# Altium footprint library OPAMP_DEV_SOT5_6-23.PcbLib: 52 footprints (part 3 of 4)
Each footprint in its own frame and in the unit in brackets; x right, y up, seen from the top. Pads: shape width x height; smd on the part's side, far side on the other; paste and mask are expansions set on the pad; w line width, h text height; cw(c..) or ccw(c..) is an arc to the next point about the centre after c.
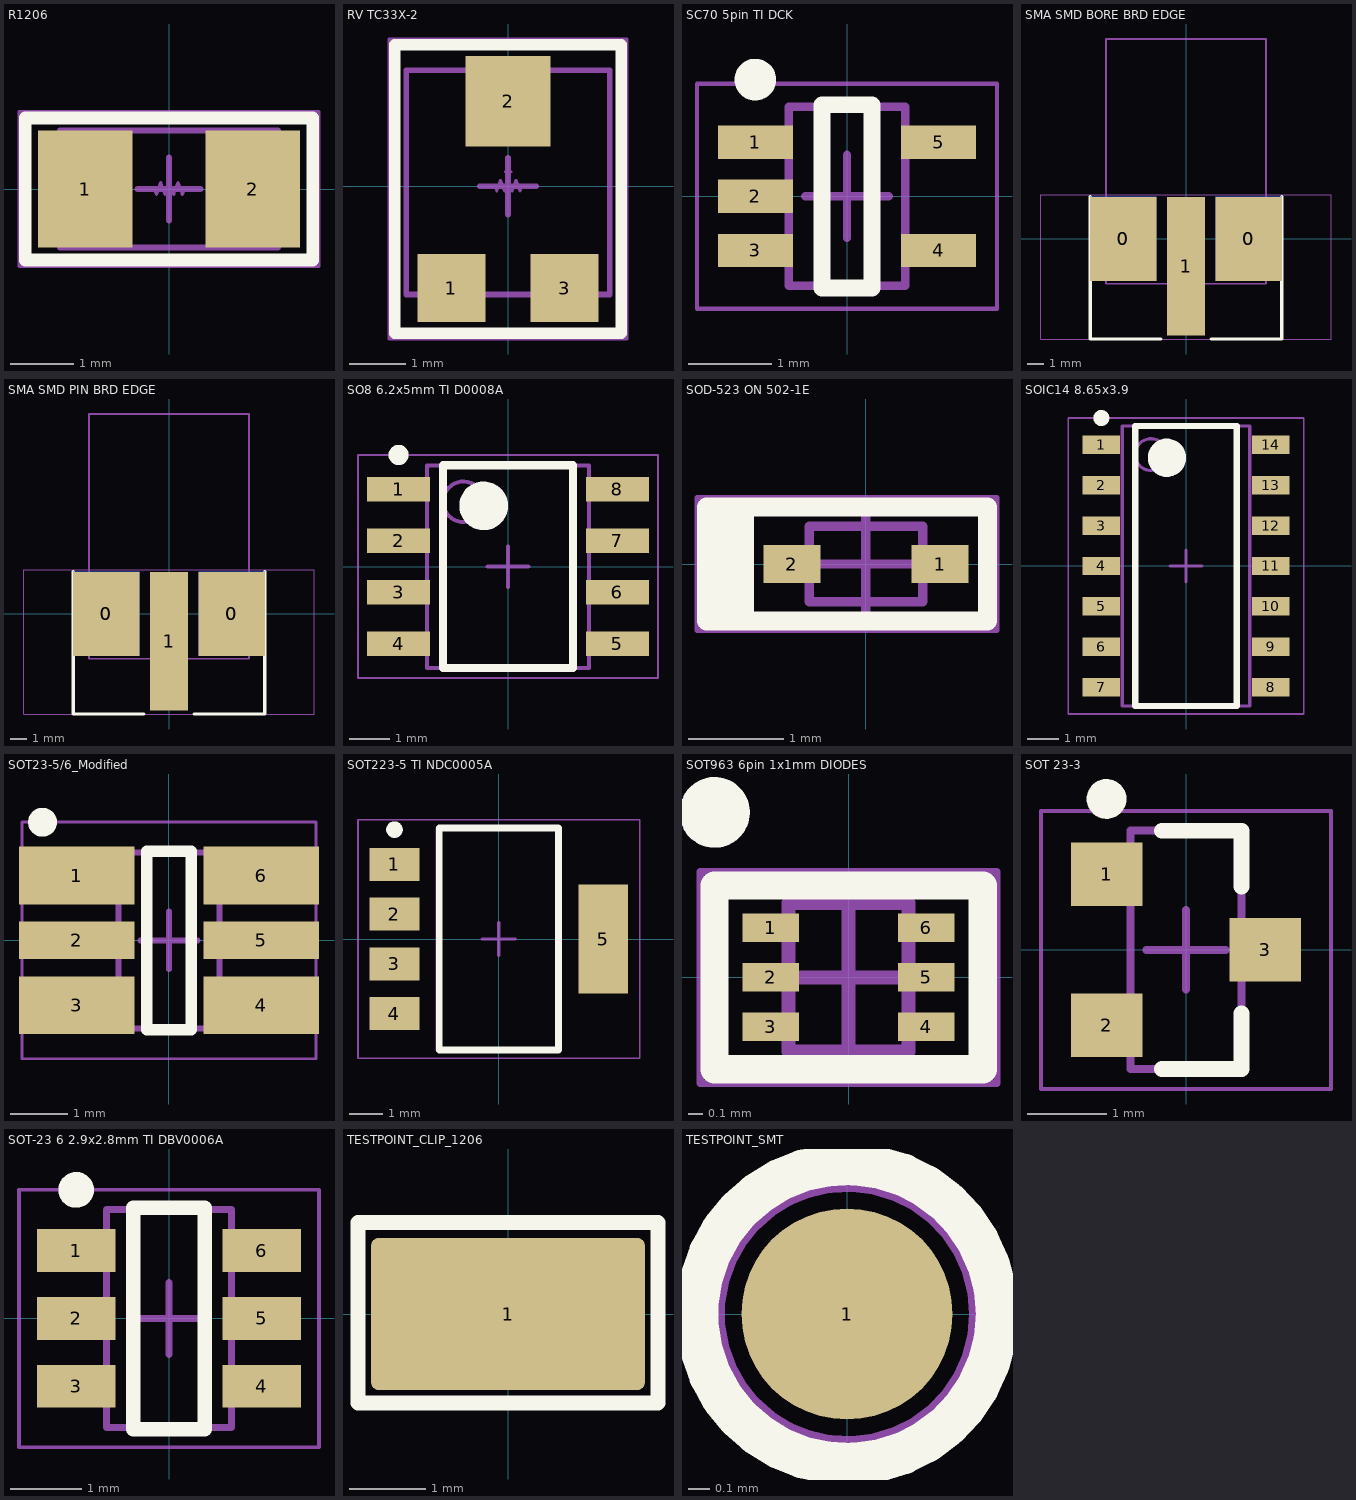
[diagram p2: the footprints below, top view; thin cyan lines are the x and y axes]

## R1206 [mm] "Chip Resistor, 2-Leads, Body 3.20x1.60mm, IPC Medium Density"
height 0.65
pads (2):
  rect 1.5x1.85 smd: 1(-1.325,0) 2(1.325,0)
Top Overlay:
  lines w0.2: -2.275,-1.125 2.275,-1.125 2.275,1.125 -2.275,1.125 -2.275,-1.125
Mechanical 13:
  lines w0.05: -0.335,0.009 -0.234,0.009 -0.2,-0.085 -0.131,0.103 -0.063,-0.085 0.006,0.103 0.074,-0.085 0.142,0.103 0.211,-0.085 0.245,0.009 0.347,0.009
  lines w0.1: -1.725,-0.925 1.725,-0.925 1.725,0.925 -1.725,0.925 -1.725,-0.925
Mechanical 15:
  lines w0.05: -2.375,-1.225 2.375,-1.225 2.375,1.225 -2.375,1.225 -2.375,-1.225
  lines w0.1: -0.5,0 0.5,0 ; 0,-0.5 0,0.5
3D body "RESC3216X06N.step": height 0.65, standoff 0, extent -1.725,-0.925 1.725,0.925

## R2512 [mm]

## RV TC33X-2 [mm]
pads (3):
  rect 1.2x1.2 smd: 1(-1,-1.8) 3(1,-1.8)
  rect 1.5x1.6 smd: 2(0,1.5)
Top Overlay:
  lines w0.2: -2,-2.6 -2,2.5 2,2.5 2,-2.6 -2,-2.6
Mechanical 1:
  lines w0.05: -0.048,0.255 0.001,0.216 0.051,0.255
Mechanical 13:
  lines w0.05: -0.335,0.009 -0.234,0.009 -0.2,-0.085 -0.131,0.103 -0.063,-0.085 0.006,0.103 0.074,-0.085 0.142,0.103 0.211,-0.085 0.245,0.009 0.347,0.009 ; 0,0.5 0.001,0.216
  lines w0.1: -1.8,-1.913 -1.8,2.05 1.8,2.05 1.8,-1.913 -1.8,-1.913
Mechanical 15:
  lines w0.05: -2.1,-2.7 -2.1,2.6 2.1,2.6 2.1,-2.7 -2.1,-2.7
  lines w0.1: -0.5,0 0.5,0 ; 0,-0.5 0,0.5
3D body "TC-33X-2.stp": height 1.13, standoff -0.02, extent -1.8,-1.913 1.8,2.05

## SC70 5pin TI DCK [mm]
height 1.1
pads (5):
  rect 0.9x0.4 smd: 1(-1.1,0.65) 2(-1.1,0) 3(-1.1,-0.65) 4(1.1,-0.65) 5(1.1,0.65)
Top Overlay:
  circle w0.25: c-1.1,1.4 r0.125
  lines w0.2: -0.3,-1.1 0.3,-1.1 0.3,1.1 -0.3,1.1 -0.3,-1.1
Mechanical 13:
  lines w0.1: -0.7,-1.075 -0.7,1.075 0.7,1.075 0.7,-1.075 -0.7,-1.075
Mechanical 15:
  lines w0.05: -1.8,-1.35 -1.8,1.35 1.8,1.35 1.8,-1.35 -1.8,-1.35
  lines w0.1: -0.5,0 0.5,0 ; 0,-0.5 0,0.5
3D body "SC70 5pin TI DCK.step": height 1.1, standoff 0, extent -1.2,-1.075 1.2,1.075

## SMA SMD BORE BRD EDGE [mm]
height 1.45
pads (5):
  rect 4x5.08 smd paste-25.375: 0(-3.786,0) 0(3.786,0)
  rect 4x5.08 smd far side paste-25.375: 0(-3.786,0) 0(3.786,0)
  rect 2.286x8.382 smd paste-25.375: 1(0,-1.651)
Top Overlay:
  lines w0.2: -5.788,2.54 -5.788,-6.042 -1.508,-6.042 ; 1.508,-6.042 5.788,-6.042 5.788,2.54
Top Assembly:
  lines w0.1: -4.826,-2.705 -4.826,12.065 4.826,12.065 4.826,-2.705 -4.826,-2.705
Top Courtyard:
  lines w0.05: -8.763,-6.042 -8.763,2.667 8.763,2.667 8.763,-6.042 -8.763,-6.042
  lines w0.1: -0.5,0 0.5,0 ; 0,-0.5 0,0.5
3D body "142-0701-801.stp": height 4.36, standoff -3.57, extent -4.763,-2.21 4.762,12.065

## SMA SMD PIN BRD EDGE [mm]
height 1.45
pads (5):
  rect 4x5.08 smd paste-25.375: 0(-3.786,0) 0(3.786,0)
  rect 4x5.08 smd far side paste-25.375: 0(-3.786,0) 0(3.786,0)
  rect 2.286x8.382 smd paste-25.375: 1(0,-1.651)
Top Overlay:
  lines w0.2: -5.788,2.54 -5.788,-6.042 -1.508,-6.042 ; 1.508,-6.042 5.788,-6.042 5.788,2.54
Top Assembly:
  lines w0.1: -4.826,-2.705 4.826,-2.705 4.826,12.065 -4.826,12.065 -4.826,-2.705
Top Courtyard:
  lines w0.05: -8.763,-6.042 8.763,-6.042 8.763,2.667 -8.763,2.667 -8.763,-6.042
  lines w0.1: -0.5,0 0.5,0 ; 0,-0.5 0,0.5
3D body "CONSMA013.062--3DModel-STEP-56544.STEP": height 4.38, standoff -3.62, extent -4.619,-1.956 4.619,15.494

## SO8 6.2x5mm TI D0008A [mm]
height 1.75
pads (8):
  rect 1.55x0.6 smd: 1(-2.7,1.905) 2(-2.7,0.635) 3(-2.7,-0.635) 4(-2.7,-1.905) 5(2.7,-1.905) 6(2.7,-0.635) 7(2.7,0.635) 8(2.7,1.905)
Top Overlay:
  circle w0.6: c-0.6,1.5 r0.3
  circle w0.25: c-2.7,2.755 r0.125
  lines w0.2: -1.6,-2.5 1.6,-2.5 1.6,2.5 -1.6,2.5 -1.6,-2.5
Mechanical 13:
  circle w0.1: c-1.1,1.6 r0.5
  lines w0.1: -2,-2.5 2,-2.5 2,2.5 -2,2.5 -2,-2.5
Mechanical 15:
  lines w0.05: -3.7,-2.75 3.7,-2.75 3.7,2.75 -3.7,2.75 -3.7,-2.75
  lines w0.1: -0.5,0 0.5,0 ; 0,-0.5 0,0.5
3D body "NE5532DR.STEP": height 1.75, standoff 0, extent -3,-2.45 3,2.45

## SOD-523 ON 502-1E [mm] "SODFL, 2-Leads, Body 0.75x1.60mm, IPC Medium Density"
height 0.7
pads (2):
  rect 0.6x0.4 smd: 1(0.78,0) 2(-0.78,0)
Top Overlay:
  lines w0.2: -1.48,-0.6 -1.28,-0.6 ; -1.48,-0.6 -1.48,0.6 ; -1.48,-0.6 -1.68,-0.6 -1.68,0.6 -1.48,0.6 ; -1.48,0.6 -1.28,0.6 ; -1.28,-0.6 1.28,-0.6 1.28,0.6 -1.28,0.6 ; -1.28,-0.6 -1.28,0.6
Mechanical 13:
  lines w0.1: -0.6,-0.4 0.6,-0.4 0.6,0.4 -0.6,0.4 -0.6,-0.4
Mechanical 15:
  lines w0.05: -1.78,-0.7 1.38,-0.7 1.38,0.7 -1.78,0.7 -1.78,-0.7
  lines w0.1: -0.5,0 0.5,0 ; 0,-0.5 0,0.5
3D body "SOD-523 ON 502-1E.step": height 0.7, standoff 0, extent -0.8,-0.4 0.8,0.4

## SOIC14 8.65x3.9 [mm] "SOIC, 14-Leads, Body 8.65x3.90mm, Pitch 1.27mm, IPC Medium Density"
height 1.75
pads (14):
  rect 1.18x0.58 smd: 1(-2.66,3.81) 2(-2.66,2.54) 3(-2.66,1.27) 4(-2.66,0) 5(-2.66,-1.27) 6(-2.66,-2.54) 7(-2.66,-3.81) 8(2.66,-3.81) 9(2.66,-2.54) 10(2.66,-1.27) 11(2.66,0) 12(2.66,1.27) 13(2.66,2.54) 14(2.66,3.81)
Top Overlay:
  circle w0.6: c-0.6,3.4 r0.3
  circle w0.25: c-2.66,4.65 r0.125
  lines w0.2: -1.6,-4.4 1.6,-4.4 1.6,4.4 -1.6,4.4 -1.6,-4.4
Mechanical 13:
  circle w0.1: c-1.1,3.5 r0.5
  lines w0.1: -2,-4.4 2,-4.4 2,4.4 -2,4.4 -2,-4.4
Mechanical 15:
  lines w0.05: -3.7,-4.65 3.7,-4.65 3.7,4.65 -3.7,4.65 -3.7,-4.65
  lines w0.1: -0.5,0 0.5,0 ; 0,-0.5 0,0.5
3D body "SOIC14 8.65x3.9.step": height 1.75, standoff 0, extent -3,-4.4 3,4.4

## SOT23-5/6_Modified [mm] "SOT23, 6-Leads, Body 2.90x2.80mm, Pitch 0.95mm, IPC Low Density"
height 1.45
pads (6):
  rect 2x1 smd: 1(-1.6,1.125) 3(-1.6,-1.125) 4(1.6,-1.125) 6(1.6,1.125)
  rect 2x0.65 smd: 2(-1.6,0) 5(1.6,0)
Top Overlay:
  circle w0.25: c-2.193,2.05 r0.125
  lines w0.2: -0.385,-1.55 -0.385,1.55 0.389,1.55 0.389,-1.55 -0.385,-1.55
Top Assembly:
  lines w0.1: -0.875,-1.525 0.875,-1.525 0.875,1.525 -0.875,1.525 -0.875,-1.525
Top Courtyard:
  lines w0.05: -2.55,-2.05 2.55,-2.05 2.55,2.05 -2.55,2.05 -2.55,-2.05
  lines w0.1: -0.5,0 0.5,0 ; 0,-0.5 0,0.5
3D body "TLV9061SIDBVR.STEP": height 1.45, standoff 0, extent -1.4,-1.45 1.4,1.45

## SOT223-5 TI NDC0005A [mm] "SOT223, 5-Leads, Body 6.50x7.00mm (avg), Pitch 1.50mm, IPC Medium Density"
height 1.8
pads (5):
  rect 1.5x1 smd: 1(-3.15,2.25) 2(-3.15,0.75) 3(-3.15,-0.75) 4(-3.15,-2.25)
  rect 1.5x3.3 smd: 5(3.15,0)
Top Overlay:
  circle w0.25: c-3.15,3.3 r0.125
  lines w0.2: -1.8,-3.35 1.8,-3.35 1.8,3.35 -1.8,3.35 -1.8,-3.35
Mechanical 13:
  lines w0.1: -1.855,-3.35 1.855,-3.35 1.855,3.35 -1.855,3.35 -1.855,-3.35
Mechanical 15:
  lines w0.05: -4.25,-3.6 4.25,-3.6 4.25,3.6 -4.25,3.6 -4.25,-3.6
  lines w0.1: -0.5,0 0.5,0 ; 0,-0.5 0,0.5
3D body "SOT223-5 TI NDC0005A.step": height 1.8, standoff 0, extent -3.5,-3.35 3.5,3.35

## SOT963 6pin 1x1mm DIODES [mm] "SOTFL, 6-Leads, Body 1.00x1.00mm, Pitch 0.35mm, IPC Medium Density"
height 0.5
pads (6):
  rect 0.4x0.2 smd: 1(-0.55,0.35) 2(-0.55,0) 3(-0.55,-0.35) 4(0.55,-0.35) 5(0.55,0) 6(0.55,0.35)
Top Overlay:
  circle w0.25: c-0.948,1.167 r0.125
  lines w0.2: -0.95,-0.65 0.95,-0.65 0.95,0.65 -0.95,0.65 -0.95,-0.65
Mechanical 13:
  lines w0.1: -0.425,-0.525 0.425,-0.525 0.425,0.525 -0.425,0.525 -0.425,-0.525
Mechanical 15:
  lines w0.05: -1.05,-0.75 1.05,-0.75 1.05,0.75 -1.05,0.75 -1.05,-0.75
  lines w0.1: -0.5,0 0.5,0 ; 0,-0.5 0,0.5
3D body "SOT963 6pin 1x1mm DIODES .step": height 0.5, standoff 0, extent -0.5,-0.523 0.5,0.523

## SOT 23-3 [mm]
height 1.15
pads (3):
  rect 0.9x0.8 smd: 1(-1,0.95) 2(-1,-0.95) 3(1,0)
Top Overlay:
  circle w0.25: c-1,1.9 r0.125
  lines w0.2: -0.3,-1.5 0.7,-1.5 0.7,-0.8 ; -0.3,1.5 0.7,1.5 0.7,0.8
Mechanical 13:
  lines w0.1: -0.7,-1.5 -0.7,1.5 0.7,1.5 0.7,-1.5 -0.7,-1.5
Mechanical 15:
  lines w0.05: -1.825,-1.75 -1.825,1.75 1.825,1.75 1.825,-1.75 -1.825,-1.75
  lines w0.1: -0.5,0 0.5,0 ; 0,-0.5 0,0.5
3D body "SOT 23-3 .step": height 1.15, standoff 0, extent -1.2,-1.5 1.2,1.5

## SOT-23 6 2.9x2.8mm TI DBV0006A [mm] "SOT23, 6-Leads, Body 2.90x2.80mm, Pitch 0.95mm, IPC Medium Density"
height 1.45
pads (6):
  rect 1.1x0.6 smd: 1(-1.3,0.95) 2(-1.3,0) 3(-1.3,-0.95) 4(1.3,-0.95) 5(1.3,0) 6(1.3,0.95)
Top Overlay:
  circle w0.25: c-1.3,1.8 r0.125
  lines w0.2: -0.5,-1.55 0.5,-1.55 0.5,1.55 -0.5,1.55 -0.5,-1.55
Mechanical 13:
  lines w0.1: -0.875,-1.525 -0.875,1.525 0.875,1.525 0.875,-1.525 -0.875,-1.525
Mechanical 15:
  lines w0.05: -2.1,-1.8 -2.1,1.8 2.1,1.8 2.1,-1.8 -2.1,-1.8
  lines w0.1: -0.5,0 0.5,0 ; 0,-0.5 0,0.5
3D body "SOT-23 6 2.9x2.8mm TI DBV0006A.step": height 1.45, standoff 0, extent -1.5,-1.525 1.5,1.525

## TESTPOINT_CLIP_1206 [mm]
pads (1):
  rrect10% 3.6x2 smd paste-1111: 1(0,0)
Top Overlay:
  lines w0.2: -1.971,-1.171 -1.971,1.201 1.971,1.201 1.971,-1.171 -1.971,-1.171
Mechanical 13:
  circle w0.05: c0,0 r0.604
3D body "RCWCTE--3DModel-STEP-56544.STEP": height 2.01, standoff 0, extent -1.6,-0.8 1.6,0.8

## TESTPOINT_SMT [mm] "testpoint smt"
pads (1):
  round 1 smd paste-1111: 1(0,0)
Top Overlay:
  circle w0.2: c0,0 r0.71
Mechanical 13:
  circle w0.05: c0,0 r0.604